# Altium schematic symbol library QUTMS_PCIConnectorLibrary.SchLib: 2 symbols
Pins are listed as number, name and electrical type; pins without a type are passive.

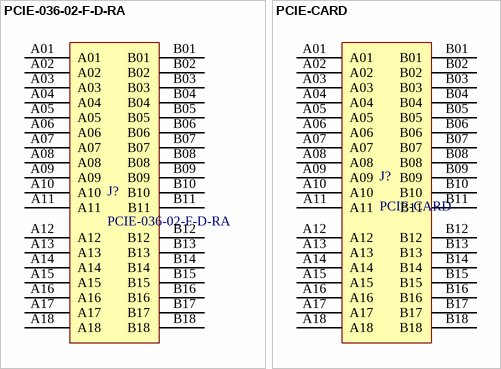
[diagram p0: symbols PCIE-036-02-F-D-RA to PCIE-CARD]

## PCIE-036-02-F-D-RA
designator J?
36 Position Female Connector PCI Express™ Gold 0.039" (1.00mm) Black
footprint PCIE-036-02-F-D-RA
pins: A01, A02, A03, A04, A05, A06, A07, A08, A09, A10, A11, A12, A13, A14, A15, A16, A17, A18, B01, B02, B03, B04, B05, B06, B07, B08, B09, B10, B11, B12, B13, B14, B15, B16, B17, B18

## PCIE-CARD
designator J?
footprint PCIE-CARD
pins: A01, A02, A03, A04, A05, A06, A07, A08, A09, A10, A11, A12, A13, A14, A15, A16, A17, A18, B01, B02, B03, B04, B05, B06, B07, B08, B09, B10, B11, B12, B13, B14, B15, B16, B17, B18